# Altium footprint library PG-LQFP-176-2.PcbLib: 1 footprints
Each footprint in its own frame and in the unit in brackets; x right, y up, seen from the top. Pads: shape width x height; smd on the part's side, far side on the other; paste and mask are expansions set on the pad; w line width, h text height; cw(c..) or ccw(c..) is an arc to the next point about the centre after c.
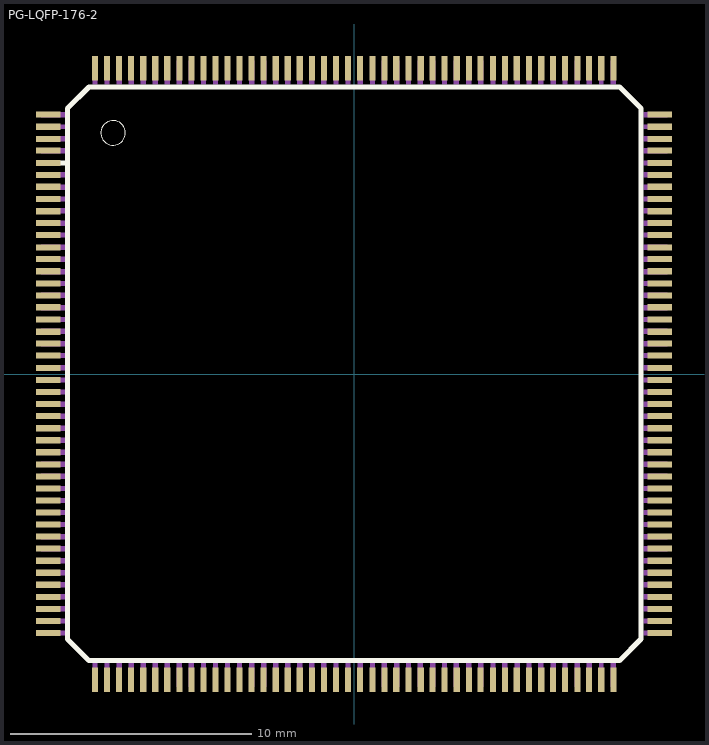
[diagram p0: the footprint, top view; thin cyan lines are the x and y axes]

## PG-LQFP-176-2 [mil]
pads (176):
  rect 10x40 smd: AGND(247,-500) AVCC(286,-500) DDR3_A0(-49.21,-500) DDR3_A1(-285.43,-500) DDR3_A2(-9.84,-500) DDR3_A3(-29.53,-500) DDR3_A4(-305.12,-500) DDR3_A5(10,-500) DDR3_A6(-246.06,-500) DDR3_A7(89,-500) DDR3_A8(-226.38,-500) DDR3_A9(50,-500) DDR3_A10(-364.17,-500) DDR3_A11(-206.69,-500) DDR3_A12(-324.8,-500) DDR3_A13(30,-500) DDR3_A14(-187.01,-500) DDR3_BA0(-68.9,-500) DDR3_BA1(-344.49,-500) DDR3_BA2(-108.27,-500) DDR3_CAS(-147.64,-500) DDR3_CK(-423.23,-500) DDR3_CK_N(-403.54,-500) DDR3_CKE(-383.86,-500) DDR3_ODT(109,-500) DDR3_RAS(-167.32,-500) DDR3_RST(69,-500) DDR3_WE(-127.95,-500) HPBP(168,-500) HPCOM(207,-500) HPOUTL(148,-500) HPOUTR(227,-500) LCD_D2/PD2(128,500) LCD_D3/PD3(148,500) LCD_D4/PD4(168,500) LCD_D5/PD5(188,500) LCD_D6/PD6(207,500) LCD_D7/PD7(227,500) LCD_D10/PD10(266,500) LCD_D11/PD11(286,500) LCD_D12/PD12(306,500) LCD_D13/PD13(325,500) LCD_D14/PD14(345,500) LCD_D15/PD15(365,500) LCD_D18/PD18(384,500) LCD_D19/PD19(404,500) LCD_D20/PD20(424,500) LRADC(384,-500) MICIN1(345,-500) NDQ0/SDC2_D0/PC8(-383.86,500) NDQ1/SDC2_D1/PC9(-344.49,500) NDQ2/SDC2_D2/PC10(-324.8,500) NDQ3/SDC2_D3/PC11(-305.12,500) NDQ4/SDC2_D4/PC12(-265.75,500) NDQ5/SDC2_D5/PC13(-246.06,500) NDQ6/SDC2_D6/PC14(-226.38,500) NDQ7/SDC2_D7/PC15(-206.69,500) NDQS/PC19(-147.64,500) NMI_N(-68.9,500) NRB0/SDC2_CMD/PC6(-423.23,500) NRB1/SDC2_CLK/PC7(-403.54,500) PB3/EINT17(89,500) PB17(-127.95,500) PB18(-108.27,500) PG0/EINT0(-9.84,500) PG1/EINT1(10,500) PG2/EINT2(30,500) PG3/UART1_TX/EINT3(50,500) PG4/UART1_RX/EINT14(69,500) RESET_N(-88.58,500) TPX2(404,-500) TPY2(424,-500) UBOOT(-49.21,500) V33_HP(188,-500) VCC3(247,500) VCC4(-167.32,500) VCC4_DRAM(-265.75,-500) VCC5_DRAM(-88.58,-500) VDD2_INT(128,-500) VDD5_CPU(-29.53,500) VDD5_INT(109,500) VDD6_CPU(-187.01,500) VDD7_CPU(-285.43,500) VDD8_CPU(-364.17,500) VMIC(365,-500) VRA1(325,-500) VRA2(306,-500) VRP(266,-500)
  rect 40x10 smd: CSI_D0/SDC_D0/PE4(500,148) CSI_D2/SDC2_D2/PE6(500,188) CSI_D3/SDC2_D3/PE7(500,207) CSI_D4/SDC2_CMD/PE8(500,227) CSI_D5/SDC2_CLK/PE9(500,247) CSI_D6/UART1_TX/PE10(500,266) CSI_D7/UART1_RX/PE11(500,286) CSI_DI/SDC2_DI/PE5(500,168) CSI_HSYNC/SP2_MOSI/P(500,109) CSI_MCLK/SPI2_CLK/EI(500,89) CSI_PCLK/SPI2_CS0/EI(500,69) CSI_VSYNC/SPI2_MISO/(500,128) DDR3_D0(-500,10) DDR3_D1(-500,-344.49) DDR3_D2(-500,30) DDR3_D3(-500,-364.17) DDR3_D4(-500,69) DDR3_D5(-500,-423.23) DDR3_D6(-500,50) DDR3_D7(-500,-383.86) DDR3_D9(-500,-49.21) DDR3_D10(-500,-324.8) DDR3_D11(-500,-29.53) DDR3_D12(-500,-265.75) DDR3_D13(-500,-68.9) DDR3_D14(-500,-305.12) DDR3_D15(-500,-88.58) DDR3_DM0(-500,-127.95) DDR3_DM1(-500,-108.27) DDR3_DQS0(-500,-167.32) DDR3_DQS0_N(-500,-187.01) DDR3_DQS1(-500,-206.69) DDR3_DQS1_N(-500,-226.38) DDR3_R8(-500,-285.43) DZQ(-500,109) LCD_CLK/PD24(500,365) LCD_D21/PD21(500,424) LCD_D22/PD22(500,404) LCD_D23/PD23(500,384) LCD_DE/PD25(500,345) LCD_HSYNC/PD26(500,325) LCD_VSYNC/PD27(500,306) NALE/SPIO_MISO/PCI(-500,306) NC(500,-226.38) NCE0(-500,404) NCE1/SPIO0/PC3(-500,384) NCLE/SPIO_CLK/PC2(-500,325) NRE(-500,424) NWE/SPIO_MOSI/PC0(-500,286) PB2/EINT16(500,-147.64) PB4_EINT18(500,-127.95) PB10/EINT24(-500,247) PB15(500,-108.27) PB16(500,-88.58) PG9/SPI1_CS0/UART3_T(-500,207) PG10/SPI1_CLK/UART3_(-500,188) PG11/SPI1_MOSI/EINT1(-500,168) PG12/SPI1_MISO/UART3(-500,148) SDC0/PF1(500,-49.21) SDC0_CLK/PF2(500,-9.84) SDC0_CMD/PF3(500,10) SDC0_D3/PF4(500,30) SDC0_DI/PF0(500,-68.9) SDCO_D2/PF5(500,50) SVREF(-500,89) TPX1(500,-423.23) TPY1(500,-403.54) TWI0-SCK/PB0(500,-187.01) TWIO-SDA/PB1(500,-167.32) UDM0(500,-344.49) UDM1(500,-305.12) UDP0(500,-324.8) UDP1(500,-285.43) V33_USB(500,-265.75) VCC1(-500,345) VCC1_DRAM(-500,-9.84) VCC2(500,-206.69) VCC2_DRAM(-500,-147.64) VCC3_DRAM(-500,-403.54) VDD1_CPU(-500,365) VDD1_INT(-500,-246.06) VDD2_CPU/PB10/EINT24(-500,266) VDD3-INT(500,-246.06) VDD3_CPU(-500,227) VDD4_CPU(-500,128) VDD4_INT(500,-29.53) X24MIN(500,-364.17) X24OUT(500,-383.86)
Top Overlay:
  circle w0: c-393.7,394 r20
  rectangle: -511.81,341 -472.44,349
  lines w8: -468.44,-433.07 -468.44,434 -433.07,469 434,469 469,434 469,-433.07 434,-468.44 -433.07,-468.44 -468.44,-433.07
Mechanical 2:
  text "ALLWINNER  A13" at -311.81,-13.19 h77.5
Mechanical 4:
Mechanical 16:
  drawing of 175 lines, arcs and shapes, not listed